# Altium footprint library Pathos.PcbLib: 69 footprints (part 5 of 5)
Each footprint in its own frame and in the unit in brackets; x right, y up, seen from the top. Pads: shape width x height; smd on the part's side, far side on the other; paste and mask are expansions set on the pad; w line width, h text height; cw(c..) or ccw(c..) is an arc to the next point about the centre after c.
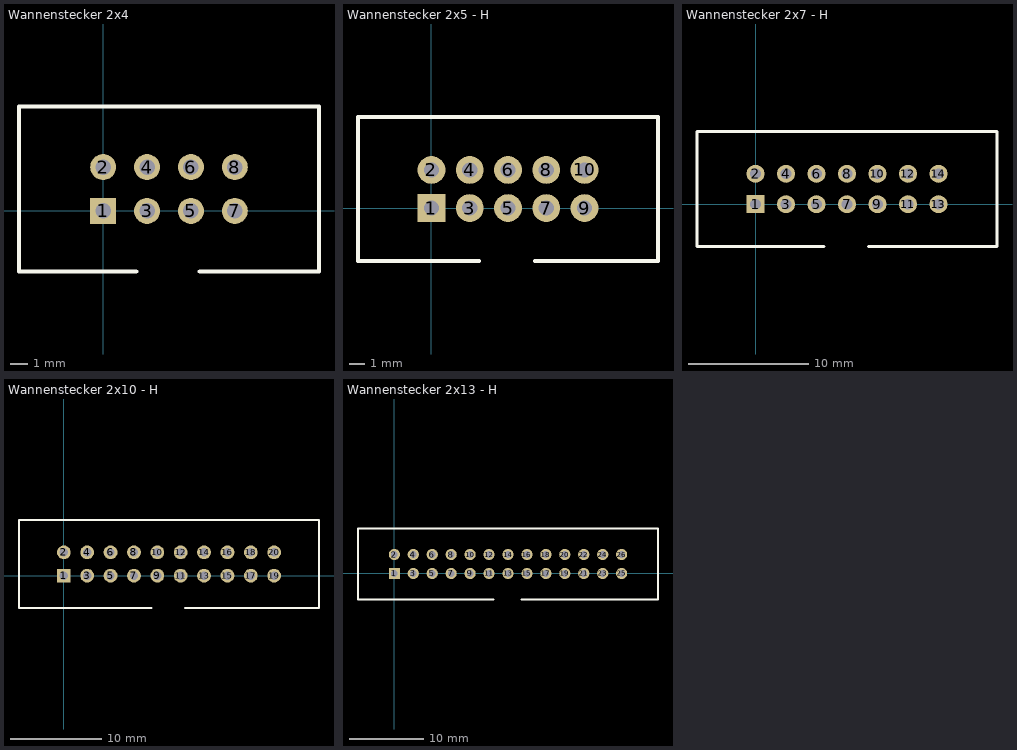
[diagram p4: the footprints below, top view; thin cyan lines are the x and y axes]

## Wannenstecker 2x4 [mm]
height 9.5
pads (8):
  rect 1.5x1.5 hole 0.9: 1(0,0)
  round 1.5 hole 0.9: 2(0,2.54) 3(2.54,0) 4(2.54,2.54) 5(5.08,0) 6(5.08,2.54) 7(7.62,0) 8(7.62,2.54)
Top Overlay:
  lines w0.254: 1.905,-3.505 -4.875,-3.505 -4.875,6.045 12.495,6.045 12.495,-3.505 5.588,-3.505
3D body: height 6.57, standoff -3, extent -0.307,-0.309 0.31,0.31
3D body: height 6.57, standoff -3, extent -0.307,2.231 0.31,2.85
3D body: height 6.57, standoff -3, extent 2.233,2.231 2.85,2.85
3D body: height 6.57, standoff -3, extent 2.233,-0.309 2.85,0.31
3D body: height 6.57, standoff -3, extent 4.773,2.231 5.39,2.85
3D body: height 6.57, standoff -3, extent 4.773,-0.309 5.39,0.31
3D body: height 6.57, standoff -3, extent 7.313,2.231 7.93,2.85
3D body: height 6.57, standoff -3, extent 7.313,-0.309 7.93,0.31
3D body: height 9.57, standoff 0, extent -4.875,-3.5 12.475,6.025
3D body: height 0.5, standoff 0, extent -4.75,-3.375 12.375,5.925

## Wannenstecker 2x5 - H [mm]
height 9.5
pads (10):
  rect 1.85x1.85 hole 1: 1(0,0)
  round 1.85 hole 1: 2(0,2.54) 3(2.54,0) 4(2.54,2.54) 5(5.08,0) 6(5.08,2.54) 7(7.62,0) 8(7.62,2.54) 9(10.16,0) 10(10.16,2.54)
Top Overlay:
  lines w0.254: 3.175,-3.505 -4.875,-3.505 -4.875,6.045 15.035,6.045 15.035,-3.505 6.858,-3.505
3D body: height 9.57, standoff 0, extent -4.875,-3.525 15.025,6.025
3D body: height 6.57, standoff -3, extent -0.307,2.231 0.31,2.85
3D body: height 6.57, standoff -3, extent -0.307,-0.309 0.31,0.31
3D body: height 6.57, standoff -3, extent 2.233,2.231 2.85,2.85
3D body: height 6.57, standoff -3, extent 2.233,-0.309 2.85,0.31
3D body: height 6.57, standoff -3, extent 4.773,2.231 5.39,2.85
3D body: height 6.57, standoff -3, extent 4.773,-0.309 5.39,0.31
3D body: height 6.57, standoff -3, extent 7.313,2.231 7.93,2.85
3D body: height 6.57, standoff -3, extent 7.313,-0.309 7.93,0.31
3D body: height 6.57, standoff -3, extent 9.853,2.231 10.47,2.85
3D body: height 6.57, standoff -3, extent 9.853,-0.309 10.47,0.31
3D body: height 0.5, standoff 0, extent -4.75,-3.375 14.925,5.925

## Wannenstecker 2x7 - H [mm]
height 9.5
pads (14):
  rect 1.5x1.5 hole 0.9: 1(0,0)
  round 1.5 hole 0.9: 2(0,2.54) 3(2.54,0) 4(2.54,2.54) 5(5.08,0) 6(5.08,2.54) 7(7.62,0) 8(7.62,2.54) 9(10.16,0) 10(10.16,2.54) 11(12.7,0) 12(12.7,2.54) 13(15.24,0) 14(15.24,2.54)
Top Overlay:
  lines w0.254: 5.715,-3.505 -4.875,-3.505 -4.875,6.045 20.115,6.045 20.115,-3.505 9.398,-3.505
3D body: height 9.57, standoff 0, extent -4.875,-3.505 20.115,6.045
3D body: height 6.57, standoff -3, extent -0.307,2.231 0.31,2.85
3D body: height 6.57, standoff -3, extent -0.307,-0.309 0.31,0.31
3D body: height 6.57, standoff -3, extent 2.233,2.231 2.85,2.85
3D body: height 6.57, standoff -3, extent 2.233,-0.309 2.85,0.31
3D body: height 6.57, standoff -3, extent 4.773,2.231 5.39,2.85
3D body: height 6.57, standoff -3, extent 4.773,-0.309 5.39,0.31
3D body: height 6.57, standoff -3, extent 7.313,2.231 7.93,2.85
3D body: height 6.57, standoff -3, extent 7.313,-0.309 7.93,0.31
3D body: height 6.57, standoff -3, extent 9.853,2.231 10.47,2.85
3D body: height 6.57, standoff -3, extent 9.853,-0.309 10.47,0.31
3D body: height 6.57, standoff -3, extent 12.393,2.231 13.01,2.85
3D body: height 6.57, standoff -3, extent 12.393,-0.309 13.01,0.31
3D body: height 6.57, standoff -3, extent 14.933,2.231 15.55,2.85
3D body: height 6.57, standoff -3, extent 14.933,-0.309 15.55,0.31
3D body: height 0.5, standoff 0, extent -4.875,-3.505 20.115,6.045

## Wannenstecker 2x10 - H [mm]
pads (20):
  rect 1.5x1.5 hole 0.9: 1(0,0)
  round 1.5 hole 0.9: 2(0,2.54) 3(2.54,0) 4(2.54,2.54) 5(5.08,0) 6(5.08,2.54) 7(7.62,0) 8(7.62,2.54) 9(10.16,0) 10(10.16,2.54) 11(12.7,0) 12(12.7,2.54) 13(15.24,0) 14(15.24,2.54) 15(17.78,0) 16(17.78,2.54) 17(20.32,0) 18(20.32,2.54) 19(22.86,0) 20(22.86,2.54)
Top Overlay:
  lines w0.254: 9.525,-3.505 -4.875,-3.505 -4.875,6.045 27.735,6.045 27.735,-3.505 13.208,-3.505
3D body: height 0.5, standoff 0, extent -4.75,-3.375 27.6,5.925
3D body: height 9.57, standoff 0, extent -4.875,-3.5 27.725,6.025
3D body: height 6.57, standoff -3, extent -0.307,2.231 0.31,2.85
3D body: height 6.57, standoff -3, extent -0.307,-0.309 0.31,0.31
3D body: height 6.57, standoff -3, extent 2.233,2.231 2.85,2.85
3D body: height 6.57, standoff -3, extent 2.233,-0.309 2.85,0.31
3D body: height 6.57, standoff -3, extent 4.773,2.231 5.39,2.85
3D body: height 6.57, standoff -3, extent 4.773,-0.309 5.39,0.31
3D body: height 6.57, standoff -3, extent 7.313,2.231 7.93,2.85
3D body: height 6.57, standoff -3, extent 7.313,-0.309 7.93,0.31
3D body: height 6.57, standoff -3, extent 9.853,2.231 10.47,2.85
3D body: height 6.57, standoff -3, extent 9.853,-0.309 10.47,0.31
3D body: height 6.57, standoff -3, extent 12.393,2.231 13.01,2.85
3D body: height 6.57, standoff -3, extent 12.393,-0.309 13.01,0.31
3D body: height 6.57, standoff -3, extent 14.933,2.231 15.55,2.85
3D body: height 6.57, standoff -3, extent 14.933,-0.309 15.55,0.31
3D body: height 6.57, standoff -3, extent 17.473,2.231 18.09,2.85
3D body: height 6.57, standoff -3, extent 17.473,-0.309 18.09,0.31
3D body: height 6.57, standoff -3, extent 20.013,2.231 20.63,2.85
3D body: height 6.57, standoff -3, extent 20.013,-0.309 20.63,0.31
3D body: height 6.57, standoff -3, extent 22.553,2.231 23.17,2.85
3D body: height 6.57, standoff -3, extent 22.553,-0.309 23.17,0.31

## Wannenstecker 2x13 - H [mm]
height 9.5
pads (26):
  rect 1.5x1.5 hole 0.9: 1(0,0)
  round 1.5 hole 0.9: 2(0,2.54) 3(2.54,0) 4(2.54,2.54) 5(5.08,0) 6(5.08,2.54) 7(7.62,0) 8(7.62,2.54) 9(10.16,0) 10(10.16,2.54) 11(12.7,0) 12(12.7,2.54) 13(15.24,0) 14(15.24,2.54) 15(17.78,0) 16(17.78,2.54) 17(20.32,0) 18(20.32,2.54) 19(22.86,0) 20(22.86,2.54) 21(25.4,0) 22(25.4,2.54) 23(27.94,0) 24(27.94,2.54) 25(30.48,0) 26(30.48,2.54)
Top Overlay:
  lines w0.254: 13.335,-3.505 -4.875,-3.505 -4.875,6.045 35.355,6.045 35.355,-3.505 17.018,-3.505
3D body: height 0.5, standoff 0, extent -4.75,-3.375 35.225,5.925
3D body: height 9.57, standoff 0, extent -4.85,-3.5 35.35,6.05
3D body: height 6.57, standoff -3, extent 30.173,-0.309 30.79,0.31
3D body: height 6.57, standoff -3, extent 30.173,2.231 30.79,2.85
3D body: height 6.57, standoff -3, extent 27.633,-0.309 28.25,0.31
3D body: height 6.57, standoff -3, extent 27.633,2.231 28.25,2.85
3D body: height 6.57, standoff -3, extent 25.093,-0.309 25.71,0.31
3D body: height 6.57, standoff -3, extent 25.093,2.231 25.71,2.85
3D body: height 6.57, standoff -3, extent 22.553,-0.309 23.17,0.31
3D body: height 6.57, standoff -3, extent 22.553,2.231 23.17,2.85
3D body: height 6.57, standoff -3, extent 20.013,-0.309 20.63,0.31
3D body: height 6.57, standoff -3, extent 20.013,2.231 20.63,2.85
3D body: height 6.57, standoff -3, extent 17.473,-0.309 18.09,0.31
3D body: height 6.57, standoff -3, extent 17.473,2.231 18.09,2.85
3D body: height 6.57, standoff -3, extent 14.933,-0.309 15.55,0.31
3D body: height 6.57, standoff -3, extent 14.933,2.231 15.55,2.85
3D body: height 6.57, standoff -3, extent 12.393,-0.309 13.01,0.31
3D body: height 6.57, standoff -3, extent 12.393,2.231 13.01,2.85
3D body: height 6.57, standoff -3, extent 9.853,-0.309 10.47,0.31
3D body: height 6.57, standoff -3, extent 9.853,2.231 10.47,2.85
3D body: height 6.57, standoff -3, extent 7.313,-0.309 7.93,0.31
3D body: height 6.57, standoff -3, extent 7.313,2.231 7.93,2.85
3D body: height 6.57, standoff -3, extent 4.773,-0.309 5.39,0.31
3D body: height 6.57, standoff -3, extent 4.773,2.231 5.39,2.85
3D body: height 6.57, standoff -3, extent 2.233,-0.309 2.85,0.31
3D body: height 6.57, standoff -3, extent 2.233,2.231 2.85,2.85
3D body: height 6.57, standoff -3, extent -0.307,-0.309 0.31,0.31
3D body: height 6.57, standoff -3, extent -0.307,2.231 0.31,2.85